# EAGLE library part TLV272 (library meng)
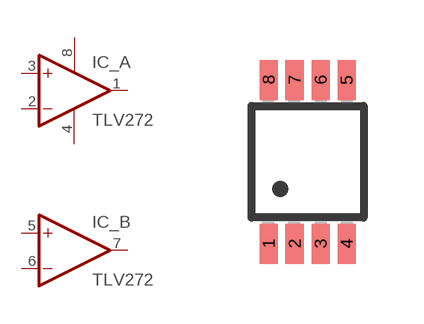
[diagram p14: symbol with the pads of MSOP8; footprint MSOP8]

Designator prefix IC; gates _A=OPAMP+- _B=OPAMP

## TLV272DGK  [MSOP8]
1  _A:OUT  out
2  _A:-IN  in
3  _A:+IN  in
4  _A:V-  pwr
5  _B:+IN  in
6  _B:-IN  in
7  _B:OUT  out
8  _A:V+  pwr

## Footprint MSOP8 (pad centres in mm)
Micro Small Outline Package Grid .65mm
smd 0.45 x 1: 1 -0.975,-2.05; 2 -0.325,-2.05; 3 0.325,-2.05; 4 0.975,-2.05; 5 0.975,2.05; 6 0.325,2.05; 7 -0.325,2.05; 8 -0.975,2.05